# Altium footprint library HDR280P.PcbLib: 1 footprints
Each footprint in its own frame and in the unit in brackets; x right, y up, seen from the top. Pads: shape width x height; smd on the part's side, far side on the other; paste and mask are expansions set on the pad; w line width, h text height; cw(c..) or ccw(c..) is an arc to the next point about the centre after c.
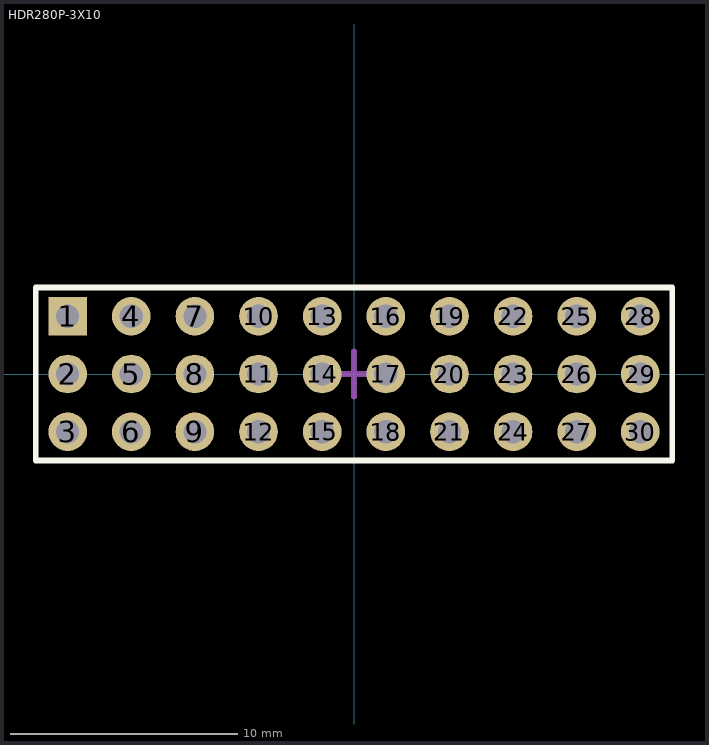
[diagram p0: the footprint, top view; thin cyan lines are the x and y axes]

## HDR280P-3X10 [mm] "2.8脚距，杜邦头用排针"
height 9
pads (30):
  rect 1.7x1.7 hole 1.02: 1(-12.6,2.54)
  round 1.7 hole 1.02: 2(-12.6,0) 3(-12.6,-2.54) 4(-9.8,2.54) 5(-9.8,0) 6(-9.8,-2.54) 7(-7,2.54) 8(-7,0) 9(-7,-2.54) 10(-4.2,2.54) 11(-4.2,0) 12(-4.2,-2.54) 13(-1.4,2.54) 14(-1.4,0) 15(-1.4,-2.54) 16(1.4,2.54) 17(1.4,0) 18(1.4,-2.54) 19(4.2,2.54) 20(4.2,0) 21(4.2,-2.54) 22(7,2.54) 23(7,0) 24(7,-2.54) 25(9.8,2.54) 26(9.8,0) 27(9.8,-2.54) 28(12.6,2.54) 29(12.6,0) 30(12.6,-2.54)
Top Overlay:
  lines w0.254: -14,-3.81 14,-3.81 14,3.81 -14,3.81 -14,-3.81
Mechanical 13:
  lines w0.1: -14,-3.81 -14,3.81 14,3.81 14,-3.81 -14,-3.81
Mechanical 15:
  lines w0.254: -1,0 1,0 ; 0,-1 0,1
3D body: height 8.54, standoff -2, extent -14,-3.81 14,3.81